# Altium footprint library Passive-Filter.PcbLib: 4 footprints
Each footprint in its own frame and in the unit in brackets; x right, y up, seen from the top. Pads: shape width x height; smd on the part's side, far side on the other; paste and mask are expansions set on the pad; w line width, h text height; cw(c..) or ccw(c..) is an arc to the next point about the centre after c.
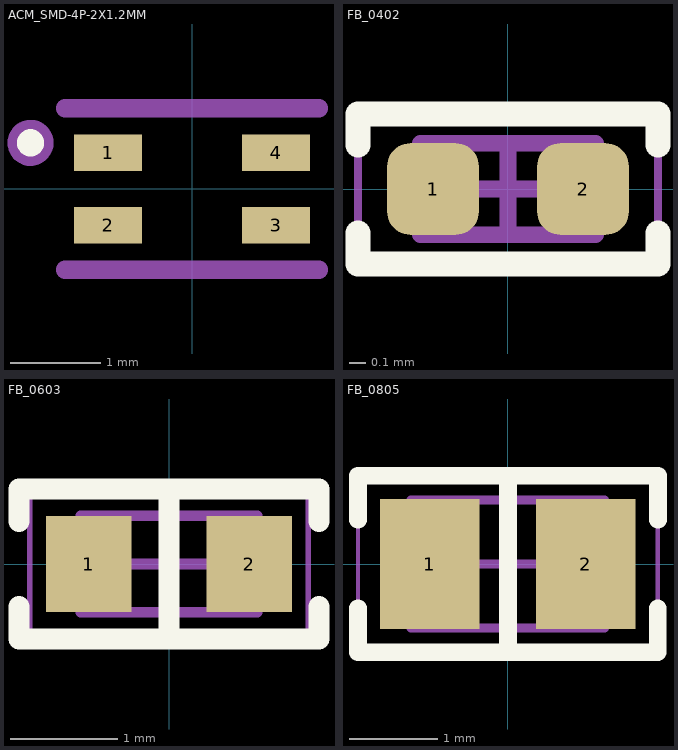
[diagram p0: the footprints below, top view; thin cyan lines are the x and y axes]

## ACM_SMD-4P-2X1.2MM [mm] "SMD-4P,2x1.2mm,CMF2012F-900-2P-T"
pads (4):
  rect 0.75x0.4 smd: 1(-0.925,0.4) 2(-0.925,-0.4) 3(0.925,-0.4) 4(0.925,0.4)
Top Overlay:
  lines w0.2: -1.828,0.508 ccw(c-1.778,0.508) -1.728,0.508 ; -1.828,0.508 cw(c-1.778,0.508) -1.728,0.508 ; -1.828,0.508 ccw(c-1.778,0.508) -1.728,0.508
Top Value:
  text "'.Comment'" at -1.052,-0.216 h0.8
Top Designator:
  text "'.Designator'" at -2.284,-0.167 h0.8
Top Assembly:
  circle w0.254: c-1.778,0.508 r0.127
  lines w0.2: -1.397,-0.889 1.397,-0.889 ; -1.397,0.889 1.397,0.889
3D body "ACM2012-900-2P-T001.stp": height 1.4, standoff 0, extent -1.26,-0.6 1.26,0.6

## FB_0402 [mm]
height 0.35
pads (2):
  rrect50% 0.55x0.55 smd: 1(-0.45,0) 2(0.45,0)
Top Overlay:
  lines w0.15: -0.9,-0.265 -0.9,-0.45 0.9,-0.45 0.9,-0.265 ; -0.9,0.265 -0.9,0.45 0.9,0.45 0.9,0.265
Top Value:
  text "'.Comment'" at -1.052,-0.216 h0.8
Top Designator:
  text "'.Designator'" at -2.284,-0.167 h0.8
Top Courtyard:
  lines w0.05: -0.9,-0.45 -0.9,0.45 0.9,0.45 0.9,-0.45 -0.9,-0.45
  lines w0.1: -0.275,0 0.275,0 ; 0,-0.275 0,0.275
Top Assembly:
  lines w0.1: -0.525,-0.275 -0.525,0.275 0.525,0.275 0.525,-0.275 -0.525,-0.275
3D body "FER 0402.STEP": height 0.52, standoff 0, extent -0.5,-0.262 0.5,0.262

## FB_0603 [mm] "Chip Inductor, 2-Leads, Body 1.55x0.80mm, IPC Medium Density"
height 0.8
pads (2):
  rect 0.8x0.9 smd: 1(-0.75,0) 2(0.75,0)
Top Overlay:
  lines w0.2: -1.4,-0.4 -1.4,-0.7 1.4,-0.7 1.4,-0.4 ; -1.4,0.4 -1.4,0.7 1.4,0.7 1.4,0.4 ; 0,-0.7 0,0.7
Top Value:
  text "'.Comment'" at -1.317,-0.27 h1
Top Designator:
  text "'.Designator'" at -3.437,-0.252 h1.2
Top Courtyard:
  lines w0.05: -1.3,-0.7 -1.3,0.7 1.3,0.7 1.3,-0.7 -1.3,-0.7
  lines w0.1: -0.45,0 0.45,0 ; 0,-0.45 0,0.45
Top Assembly:
  lines w0.1: -0.825,-0.45 -0.825,0.45 0.825,0.45 0.825,-0.45 -0.825,-0.45
3D body "0603L.STEP": height 0.8, standoff 0, extent -0.8,-0.419 0.8,0.381

## FB_0805 [mm] "Chip Inductor, 2-Leads, Body 2.00x1.25mm, IPC Medium Density"
height 0.85
pads (2):
  rect 1.13x1.47 smd: 1(-0.885,0) 2(0.885,0)
Top Overlay:
  lines w0.2: -1.7,-0.5 -1.7,-1 1.7,-1 1.7,-0.5 ; -1.7,0.5 -1.7,1 1.704,1 1.704,0.504 ; 0.002,-0.998 0.002,1
Top Value:
  text "'.Comment'" at -1.843,-0.378 h1.4
Top Designator:
  text "'.Designator'" at -4.579,-0.335 h1.6
Top Courtyard:
  lines w0.05: -1.7,-1 -1.7,1 1.7,1 1.7,-1 -1.7,-1
  lines w0.1: -0.5,0 0.5,0 ; 0,-0.5 0,0.5
Top Assembly:
  lines w0.1: -1.1,-0.725 -1.1,0.725 1.1,0.725 1.1,-0.725 -1.1,-0.725
3D body "0805L.STEP": height 0.9, standoff 0, extent -1,-0.6 1,0.6